# EAGLE library part MP6500 (library MP6500_QFN65P500X500X100-25N)
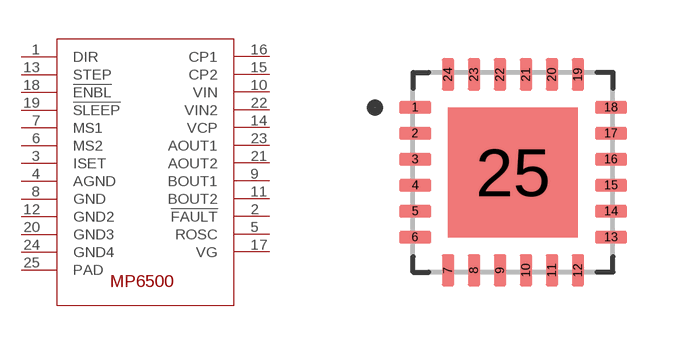
[diagram p0: symbol with the pads of QFN65P500X500X100-25N; footprint QFN65P500X500X100-25N]

Designator prefix -

## MP6500  [QFN65P500X500X100-25N]
1  DIR
2  !FAULT
3  ISET
4  AGND
5  ROSC
6  MS2
7  MS1
8  GND
9  BOUT1
10  VIN
11  BOUT2
12  GND2
13  STEP
14  VCP
15  CP2
16  CP1
17  VG
18  !ENBL
19  !SLEEP
20  GND3
21  AOUT2
22  VIN2
23  AOUT1
24  GND4
25  PAD

## Footprint QFN65P500X500X100-25N (pad centres in mm)
smd 0.81 x 0.32: 1 -2.45,1.625; 2 -2.45,0.975; 3 -2.45,0.325; 4 -2.45,-0.325; 5 -2.45,-0.975; 6 -2.45,-1.625; 13 2.45,-1.625; 14 2.45,-0.975; 15 2.45,-0.325; 16 2.45,0.325; 17 2.45,0.975; 18 2.45,1.625
smd 0.32 x 0.81: 7 -1.625,-2.45; 8 -0.975,-2.45; 9 -0.325,-2.45; 10 0.325,-2.45; 11 0.975,-2.45; 12 1.625,-2.45; 19 1.625,2.45; 20 0.975,2.45; 21 0.325,2.45; 22 -0.325,2.45; 23 -0.975,2.45; 24 -1.625,2.45
smd 3.25 x 3.25: 25 0,0